# Altium footprint library MLT-8530.PcbLib: 1 footprints
Each footprint in its own frame and in the unit in brackets; x right, y up, seen from the top. Pads: shape width x height; smd on the part's side, far side on the other; paste and mask are expansions set on the pad; w line width, h text height; cw(c..) or ccw(c..) is an arc to the next point about the centre after c.
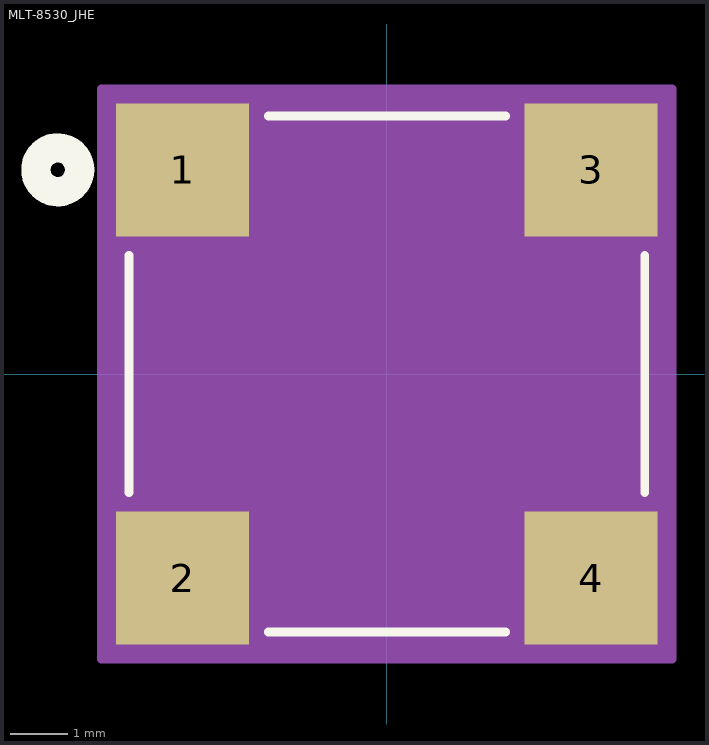
[diagram p0: the footprint, top view; thin cyan lines are the x and y axes]

## MLT-8530_JHE [mm]
pads (4):
  rect 2.311x2.311 smd paste+0 mask+0: 1(-3.55,3.55) 2(-3.55,-3.55) 3(3.55,3.55) 4(3.55,-3.55)
Top Overlay:
  circle w0.508: c-5.722,3.55 r0.381
  lines w0.152: -4.483,-2.062 -4.483,2.062 ; -2.062,-4.483 2.062,-4.483 ; -2.062,4.483 2.062,4.483 ; 4.483,-2.062 4.483,2.062
  text ".Designator" at -3.492,-0.635 h1.27
Bottom Overlay:
  circle w0.508: c-5.722,3.55 r0.381
Mechanical 13:
  circle w0.508: c-3.55,3.55 r0.381
  lines w0.025: -4.356,-4.356 4.356,-4.356 4.356,4.356 -4.356,4.356 -4.356,-4.356
  text ".Designator" at -3.492,-0.635 h1.27
Mechanical 15:
  region: 4.96,4.96 -4.96,4.96 -4.96,-4.96 4.96,-4.96
  lines w0.152: -4.96,-4.96 -4.96,4.96 4.96,4.96 4.96,-4.96 -4.96,-4.96